# Altium integrated library TI Data Converters Analog to Digital Converter.IntLib: 2197 symbols (part 67 of 168)
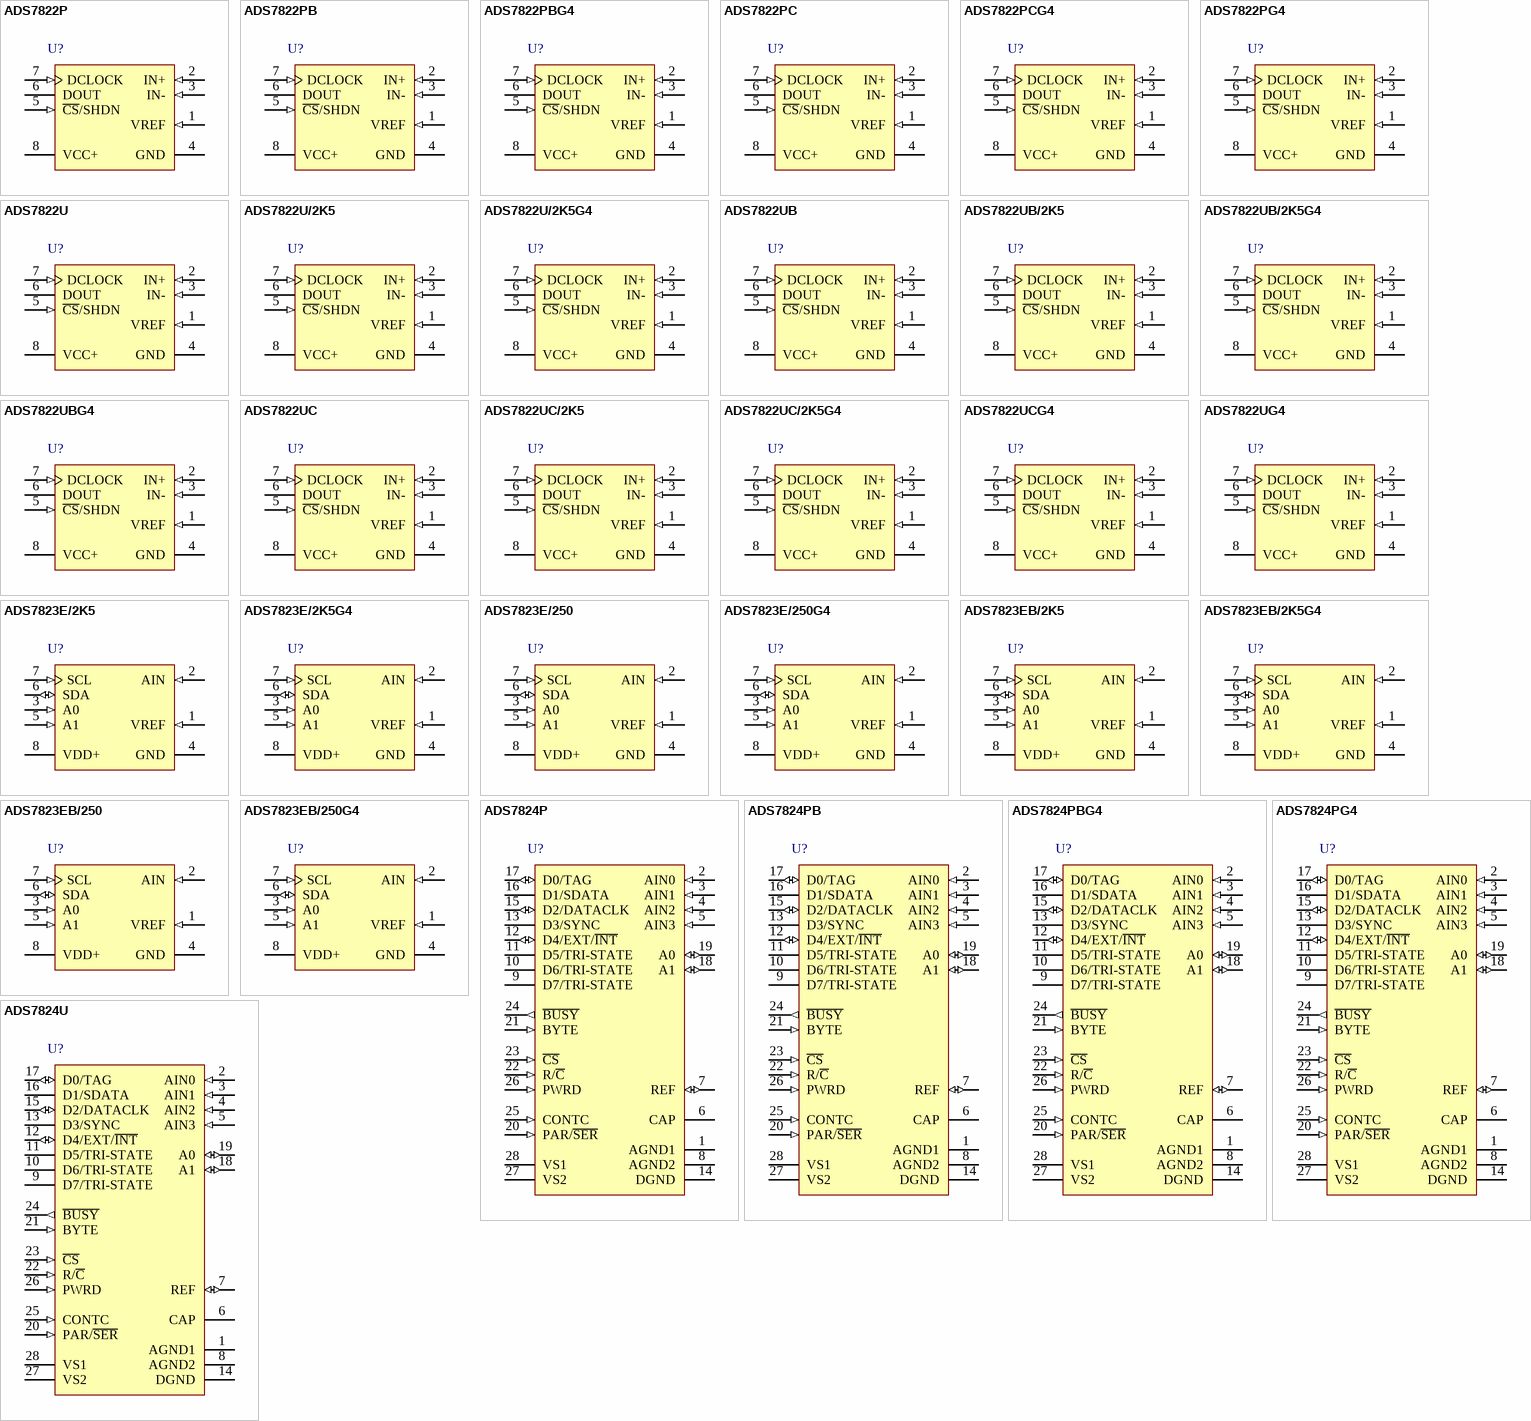
[diagram p192: symbols ADS7822P to ADS7824U]

## ADS7824PBG4
designator U?
4-Channel, 12-Bit Sampling CMOS ADC, -40 to 85 degC, 28-pin DIP (NT28), Green (RoHS & no Sb/Br); Manufacturer: Texas Instruments; PartNumber: ADS7824PBG4; # Input Channels: 4; Analog Voltage AV/DD(Max)(V): 5.25; Analog Voltage AV/DD(Min)(V): 4.75; Architecture: SAR; INL(Max)(+/-LSB): 0.5; Interface: Parallel CMOS, Serial SPI; Resolution(Bits): 12; Sample Rate (max)(SPS): 40k; SFDR(dB): 90; SINAD(dB): 73; SubFamily: Precision ADC (<=10MSPS); DatasheetVersion: SBAS044; PackageVersion: 4040050/C, 04/2009; PackageReference: NT28; PackageDescription: 28-Pin Plastic Dual-In-Line Package, Body 35.69 x 6.73 mm, Pitch 2.54 mm; Supplier 1: Digi-Key; Supplier Part Number 1: TLV2553IDWG4-ND; Supplier 2: Mouser; Supplier Part Number 2: 595-TLV2553IDWG4; Digital Supply(Max)(V): 5.25; Digital Supply(Min)(V): 4.75; Eco-Plan: Green (RoHS & no Sb/Br); SNR(dB): 73; Mounting Technology: Through Hole; ComponentLink1Description: Manufacturer URL; ComponentLink1URL: http://www.ti.com/; ComponentLink2Description: Datasheet; ComponentLink2URL: http://www.ti.com/general/docs/lit/getliterature.tsp?genericPartNumber=ADS7824&fileType=pdf; ComponentLink3Description: Package Specification; ComponentLink3URL: http://www.ti.com/lit/ml/mpdi004a/mpdi004a.pdf
footprint TI-NT28 (DIP, 28-Leads, Body 35.69x6.73mm, Pitch 2.54mm)
pins: 1 AGND1 (power) "Analog Ground. Used internally as ground reference point.", 2 AIN0 (in) "Analog Input Channel 0. Full-scale input range is +/-10V.", 3 AIN1 (in) "Analog Input Channel 1. Full-scale input range is +/-10V.", 4 AIN2 (in) "Analog Input Channel 2. Full-scale input range is +/-10V.", 5 AIN3 (in) "Analog Input Channel 3. Full-scale input range is +/-10V.", 6 CAP "Internal Reference Output Buffer. 2.2uF Tantalum to ground.", 7 REF (io) "Reference Input/Output. Outputs +2.5V nominal. If used externally, must be buffered to maintain ADS7825 accuracy. Can also be driven by external system reference. In both cases, bypass to ground with a 2.2uF Tantalum (See Datasheet)", 8 AGND2 (power) "Analog Ground.", 9 D7/TRI-STATE (hiz) "Parallel Data Bit 7 if PAR/S\E\R\ HIGH; Tri-state if PAR/S\E\R\ LOW. See Table I.", 10 D6/TRI-STATE (hiz) "Parallel Data Bit 6 if PAR/S\E\R\ HIGH; Tri-state if PAR/S\E\R\ LOW. See Table I.", 11 D5/TRI-STATE (hiz) "Parallel Data Bit 5 if PAR/S\E\R\ HIGH; Tri-state if PAR/S\E\R\ LOW. See Table I.", 12 D4/EXT/~{INT} (io) "Parallel Data Bit 4 if PAR/S\E\R\ HIGH; if PAR/S\E\R\ LOW, a LOW level input here will transmit serial data on SDATA from the previous conversion using the internal serial clock; a HIGH input here will transmit serial data (See Datasheet)", 13 D3/SYNC (hiz) "Parallel Data Bit 3 if PAR/S\E\R\ HIGH; SYNC output if PAR/S\E\R\ LOW. See Table I.", 14 DGND (power) "Digital Ground.", 15 D2/DATACLK (io) "Parallel Data Bit 2 if PAR/S\E\R\ HIGH; if PAR/S\E\R\ LOW, this will output the internal serial clock if EXT/I\N\T\ (D4) is LOW; will be an input for an external serial clock if EXT/I\N\T\ (D4) is HIGH. See Table I.", 16 D1/SDATA (hiz) "Parallel Data Bit 1 if PAR/S\E\R\ HIGH; SDATA serial data output if PAR/S\E\R\ LOW. See Table I.", 17 D0/TAG (io) "Parallel Data Bit 0 if PAR/S\E\R\ HIGH; TAG data input if PAR/S\E\R\ LOW. See Table I.", 18 A1 (io) "Channel Address. Input if CONTC LOW, output if CONTC HIGH. See Table I.", 19 A0 (io) "Channel Address. Input if CONTC LOW, output if CONTC HIGH. See Table I.", 20 PAR/~{SER} (in) "Select Parallel or Serial Output. If HIGH, parallel data will be output on D0 thru D7. If LOW, serial data will be output on SDATA. See Table I and Figure 1.", 21 BYTE (in) "Byte Select. Only used with parallel data, when PAR/S\E\R\ HIGH. Determines which byte is available on D0 thru D7. Changing BYTE with C\S\ LOW and R/C\ HIGH will cause the data bus to change accordingly. LOW selects the 8 (See Datasheet)", 22 R/~{C} (in) "Read/Convert Input. With C\S\ LOW, a falling edge on R/C\ puts the internal sample/hold into the hold state and starts a conversion. With C\S\ LOW, a rising edge on R/C\ enables the output data bits if PAR/S\E\R\ HIGH, or (See Datasheet)", 23 ~{CS} (in) "Chip Select. Internally OR'd with R/C\. With CONTC LOW and R/C\ LOW, a falling edge on C\S\ will initiate a conversion. With R/\C\ HIGH, a falling edge on C\S\ will enable the output data bits if PAR/S\E\R\ HIGH, or starts (See Datasheet)", 24 ~{BUSY} (out) "Busy Output. Falls when conversion is started; remains LOW until the conversion is completed and the data is latched into the output register. In parallel output mode, output data will be valid when B\U\S\Y\ rises, so that (See Datasheet)", 25 CONTC (in) "Continuous Conversion Input. If LOW, conversions will occur normally when initiated using C\S\ and R/C\; if HIGH, acquisition and conversions will take place continually, cycling through all four input channels, as long as (See Datasheet)", 26 PWRD (in) "Power Down Input. If HIGH, conversions are inhibited and power consumption is significantly reduced. Results from the previous conversion are maintained in the output register. In the continuous conversion mode, the (See Datasheet)", 27 VS2 (power) "Supply Input. Nominally +5V. Connect directly to pin 28. Decouple to ground with 0.1uF ceramic and 10uF Tantalum capacitors.", 28 VS1 (power) "Supply Input. Nominally +5V. Connect directly to pin 27."

## ADS7824PG4
designator U?
4-Channel, 12-Bit Sampling CMOS ADC, -40 to 85 degC, 28-pin DIP (NT28), Green (RoHS & no Sb/Br); Manufacturer: Texas Instruments; PartNumber: ADS7824PG4; # Input Channels: 4; Analog Voltage AV/DD(Max)(V): 5.25; Analog Voltage AV/DD(Min)(V): 4.75; Architecture: SAR; INL(Max)(+/-LSB): 1; Interface: Parallel CMOS, Serial SPI; Resolution(Bits): 12; Sample Rate (max)(SPS): 40k; SFDR(dB): 90; SINAD(dB): 73; SubFamily: Precision ADC (<=10MSPS); DatasheetVersion: SBAS044; PackageVersion: 4040050/C, 04/2009; PackageReference: NT28; PackageDescription: 28-Pin Plastic Dual-In-Line Package, Body 35.69 x 6.73 mm, Pitch 2.54 mm; Supplier 1: Digi-Key; Supplier Part Number 1: TLV2553IDWR-ND; Supplier 2: Mouser; Supplier Part Number 2: 595-TLV2553IDWR; Digital Supply(Max)(V): 5.25; Digital Supply(Min)(V): 4.75; Eco-Plan: Green (RoHS & no Sb/Br); SNR(dB): 73; Mounting Technology: Through Hole; ComponentLink1Description: Manufacturer URL; ComponentLink1URL: http://www.ti.com/; ComponentLink2Description: Datasheet; ComponentLink2URL: http://www.ti.com/general/docs/lit/getliterature.tsp?genericPartNumber=ADS7824&fileType=pdf; ComponentLink3Description: Package Specification; ComponentLink3URL: http://www.ti.com/lit/ml/mpdi004a/mpdi004a.pdf
footprint TI-NT28 (DIP, 28-Leads, Body 35.69x6.73mm, Pitch 2.54mm)
pins: 1 AGND1 (power) "Analog Ground. Used internally as ground reference point.", 2 AIN0 (in) "Analog Input Channel 0. Full-scale input range is +/-10V.", 3 AIN1 (in) "Analog Input Channel 1. Full-scale input range is +/-10V.", 4 AIN2 (in) "Analog Input Channel 2. Full-scale input range is +/-10V.", 5 AIN3 (in) "Analog Input Channel 3. Full-scale input range is +/-10V.", 6 CAP "Internal Reference Output Buffer. 2.2uF Tantalum to ground.", 7 REF (io) "Reference Input/Output. Outputs +2.5V nominal. If used externally, must be buffered to maintain ADS7825 accuracy. Can also be driven by external system reference. In both cases, bypass to ground with a 2.2uF Tantalum (See Datasheet)", 8 AGND2 (power) "Analog Ground.", 9 D7/TRI-STATE (hiz) "Parallel Data Bit 7 if PAR/S\E\R\ HIGH; Tri-state if PAR/S\E\R\ LOW. See Table I.", 10 D6/TRI-STATE (hiz) "Parallel Data Bit 6 if PAR/S\E\R\ HIGH; Tri-state if PAR/S\E\R\ LOW. See Table I.", 11 D5/TRI-STATE (hiz) "Parallel Data Bit 5 if PAR/S\E\R\ HIGH; Tri-state if PAR/S\E\R\ LOW. See Table I.", 12 D4/EXT/~{INT} (io) "Parallel Data Bit 4 if PAR/S\E\R\ HIGH; if PAR/S\E\R\ LOW, a LOW level input here will transmit serial data on SDATA from the previous conversion using the internal serial clock; a HIGH input here will transmit serial data (See Datasheet)", 13 D3/SYNC (hiz) "Parallel Data Bit 3 if PAR/S\E\R\ HIGH; SYNC output if PAR/S\E\R\ LOW. See Table I.", 14 DGND (power) "Digital Ground.", 15 D2/DATACLK (io) "Parallel Data Bit 2 if PAR/S\E\R\ HIGH; if PAR/S\E\R\ LOW, this will output the internal serial clock if EXT/I\N\T\ (D4) is LOW; will be an input for an external serial clock if EXT/I\N\T\ (D4) is HIGH. See Table I.", 16 D1/SDATA (hiz) "Parallel Data Bit 1 if PAR/S\E\R\ HIGH; SDATA serial data output if PAR/S\E\R\ LOW. See Table I.", 17 D0/TAG (io) "Parallel Data Bit 0 if PAR/S\E\R\ HIGH; TAG data input if PAR/S\E\R\ LOW. See Table I.", 18 A1 (io) "Channel Address. Input if CONTC LOW, output if CONTC HIGH. See Table I.", 19 A0 (io) "Channel Address. Input if CONTC LOW, output if CONTC HIGH. See Table I.", 20 PAR/~{SER} (in) "Select Parallel or Serial Output. If HIGH, parallel data will be output on D0 thru D7. If LOW, serial data will be output on SDATA. See Table I and Figure 1.", 21 BYTE (in) "Byte Select. Only used with parallel data, when PAR/S\E\R\ HIGH. Determines which byte is available on D0 thru D7. Changing BYTE with C\S\ LOW and R/C\ HIGH will cause the data bus to change accordingly. LOW selects the 8 (See Datasheet)", 22 R/~{C} (in) "Read/Convert Input. With C\S\ LOW, a falling edge on R/C\ puts the internal sample/hold into the hold state and starts a conversion. With C\S\ LOW, a rising edge on R/C\ enables the output data bits if PAR/S\E\R\ HIGH, or (See Datasheet)", 23 ~{CS} (in) "Chip Select. Internally OR'd with R/C\. With CONTC LOW and R/C\ LOW, a falling edge on C\S\ will initiate a conversion. With R/\C\ HIGH, a falling edge on C\S\ will enable the output data bits if PAR/S\E\R\ HIGH, or starts (See Datasheet)", 24 ~{BUSY} (out) "Busy Output. Falls when conversion is started; remains LOW until the conversion is completed and the data is latched into the output register. In parallel output mode, output data will be valid when B\U\S\Y\ rises, so that (See Datasheet)", 25 CONTC (in) "Continuous Conversion Input. If LOW, conversions will occur normally when initiated using C\S\ and R/C\; if HIGH, acquisition and conversions will take place continually, cycling through all four input channels, as long as (See Datasheet)", 26 PWRD (in) "Power Down Input. If HIGH, conversions are inhibited and power consumption is significantly reduced. Results from the previous conversion are maintained in the output register. In the continuous conversion mode, the (See Datasheet)", 27 VS2 (power) "Supply Input. Nominally +5V. Connect directly to pin 28. Decouple to ground with 0.1uF ceramic and 10uF Tantalum capacitors.", 28 VS1 (power) "Supply Input. Nominally +5V. Connect directly to pin 27."

## ADS7824U
designator U?
4-Channel, 12-Bit Sampling CMOS ADC, -40 to 85 degC, 28-pin SOIC (DW28), Green (RoHS & no Sb/Br); Manufacturer: Texas Instruments; PartNumber: ADS7824U; # Input Channels: 4; Analog Voltage AV/DD(Max)(V): 5.25; Analog Voltage AV/DD(Min)(V): 4.75; Architecture: SAR; INL(Max)(+/-LSB): 1; Interface: Parallel CMOS, Serial SPI; Resolution(Bits): 12; Sample Rate (max)(SPS): 40k; SFDR(dB): 90; SINAD(dB): 73; SubFamily: Precision ADC (<=10MSPS); DatasheetVersion: SBAS044; PackageVersion: 4040000-6/G, 01/2011; PackageReference: DW28; PackageDescription: 28-Pin Plastic Small Outline, Body 17.90 x 7.50 mm, Pitch 1.27 mm; Supplier 1: Digi-Key; Supplier Part Number 1: TLV2553IDWRG4-ND; Supplier 2: Mouser; Supplier Part Number 2: 595-TLV2553IDWRG4; Digital Supply(Max)(V): 5.25; Digital Supply(Min)(V): 4.75; Eco-Plan: Green (RoHS & no Sb/Br); SNR(dB): 73; Mounting Technology: Surface Mount; Code_JEDEC: MS-013; ComponentLink1Description: Manufacturer URL; ComponentLink1URL: http://www.ti.com/; ComponentLink2Description: Datasheet; ComponentLink2URL: http://www.ti.com/general/docs/lit/getliterature.tsp?genericPartNumber=ADS7824&fileType=pdf; ComponentLink3Description: Package Specification; ComponentLink3URL: http://www.ti.com/lit/ml/mpds175a/mpds175a.pdf
footprint TI-DW28_N (SOIC, 28-Leads, Body 17.9x7.5mm, Pitch 1.27mm, IPC Medium Density)
footprint TI-DW28_L (SOIC, 28-Leads, Body 17.9x7.5mm, Pitch 1.27mm, IPC High Density)
footprint TI-DW28_M (SOIC, 28-Leads, Body 17.9x7.5mm, Pitch 1.27mm, IPC Low Density)
pins: 1 AGND1 (power) "Analog Ground. Used internally as ground reference point.", 2 AIN0 (in) "Analog Input Channel 0. Full-scale input range is +/-10V.", 3 AIN1 (in) "Analog Input Channel 1. Full-scale input range is +/-10V.", 4 AIN2 (in) "Analog Input Channel 2. Full-scale input range is +/-10V.", 5 AIN3 (in) "Analog Input Channel 3. Full-scale input range is +/-10V.", 6 CAP "Internal Reference Output Buffer. 2.2uF Tantalum to ground.", 7 REF (io) "Reference Input/Output. Outputs +2.5V nominal. If used externally, must be buffered to maintain ADS7825 accuracy. Can also be driven by external system reference. In both cases, bypass to ground with a 2.2uF Tantalum (See Datasheet)", 8 AGND2 (power) "Analog Ground.", 9 D7/TRI-STATE (hiz) "Parallel Data Bit 7 if PAR/S\E\R\ HIGH; Tri-state if PAR/S\E\R\ LOW. See Table I.", 10 D6/TRI-STATE (hiz) "Parallel Data Bit 6 if PAR/S\E\R\ HIGH; Tri-state if PAR/S\E\R\ LOW. See Table I.", 11 D5/TRI-STATE (hiz) "Parallel Data Bit 5 if PAR/S\E\R\ HIGH; Tri-state if PAR/S\E\R\ LOW. See Table I.", 12 D4/EXT/~{INT} (io) "Parallel Data Bit 4 if PAR/S\E\R\ HIGH; if PAR/S\E\R\ LOW, a LOW level input here will transmit serial data on SDATA from the previous conversion using the internal serial clock; a HIGH input here will transmit serial data (See Datasheet)", 13 D3/SYNC (hiz) "Parallel Data Bit 3 if PAR/S\E\R\ HIGH; SYNC output if PAR/S\E\R\ LOW. See Table I.", 14 DGND (power) "Digital Ground.", 15 D2/DATACLK (io) "Parallel Data Bit 2 if PAR/S\E\R\ HIGH; if PAR/S\E\R\ LOW, this will output the internal serial clock if EXT/I\N\T\ (D4) is LOW; will be an input for an external serial clock if EXT/I\N\T\ (D4) is HIGH. See Table I.", 16 D1/SDATA (hiz) "Parallel Data Bit 1 if PAR/S\E\R\ HIGH; SDATA serial data output if PAR/S\E\R\ LOW. See Table I.", 17 D0/TAG (io) "Parallel Data Bit 0 if PAR/S\E\R\ HIGH; TAG data input if PAR/S\E\R\ LOW. See Table I.", 18 A1 (io) "Channel Address. Input if CONTC LOW, output if CONTC HIGH. See Table I.", 19 A0 (io) "Channel Address. Input if CONTC LOW, output if CONTC HIGH. See Table I.", 20 PAR/~{SER} (in) "Select Parallel or Serial Output. If HIGH, parallel data will be output on D0 thru D7. If LOW, serial data will be output on SDATA. See Table I and Figure 1.", 21 BYTE (in) "Byte Select. Only used with parallel data, when PAR/S\E\R\ HIGH. Determines which byte is available on D0 thru D7. Changing BYTE with C\S\ LOW and R/C\ HIGH will cause the data bus to change accordingly. LOW selects the 8 (See Datasheet)", 22 R/~{C} (in) "Read/Convert Input. With C\S\ LOW, a falling edge on R/C\ puts the internal sample/hold into the hold state and starts a conversion. With C\S\ LOW, a rising edge on R/C\ enables the output data bits if PAR/S\E\R\ HIGH, or (See Datasheet)", 23 ~{CS} (in) "Chip Select. Internally OR'd with R/C\. With CONTC LOW and R/C\ LOW, a falling edge on C\S\ will initiate a conversion. With R/\C\ HIGH, a falling edge on C\S\ will enable the output data bits if PAR/S\E\R\ HIGH, or starts (See Datasheet)", 24 ~{BUSY} (out) "Busy Output. Falls when conversion is started; remains LOW until the conversion is completed and the data is latched into the output register. In parallel output mode, output data will be valid when B\U\S\Y\ rises, so that (See Datasheet)", 25 CONTC (in) "Continuous Conversion Input. If LOW, conversions will occur normally when initiated using C\S\ and R/C\; if HIGH, acquisition and conversions will take place continually, cycling through all four input channels, as long as (See Datasheet)", 26 PWRD (in) "Power Down Input. If HIGH, conversions are inhibited and power consumption is significantly reduced. Results from the previous conversion are maintained in the output register. In the continuous conversion mode, the (See Datasheet)", 27 VS2 (power) "Supply Input. Nominally +5V. Connect directly to pin 28. Decouple to ground with 0.1uF ceramic and 10uF Tantalum capacitors.", 28 VS1 (power) "Supply Input. Nominally +5V. Connect directly to pin 27."

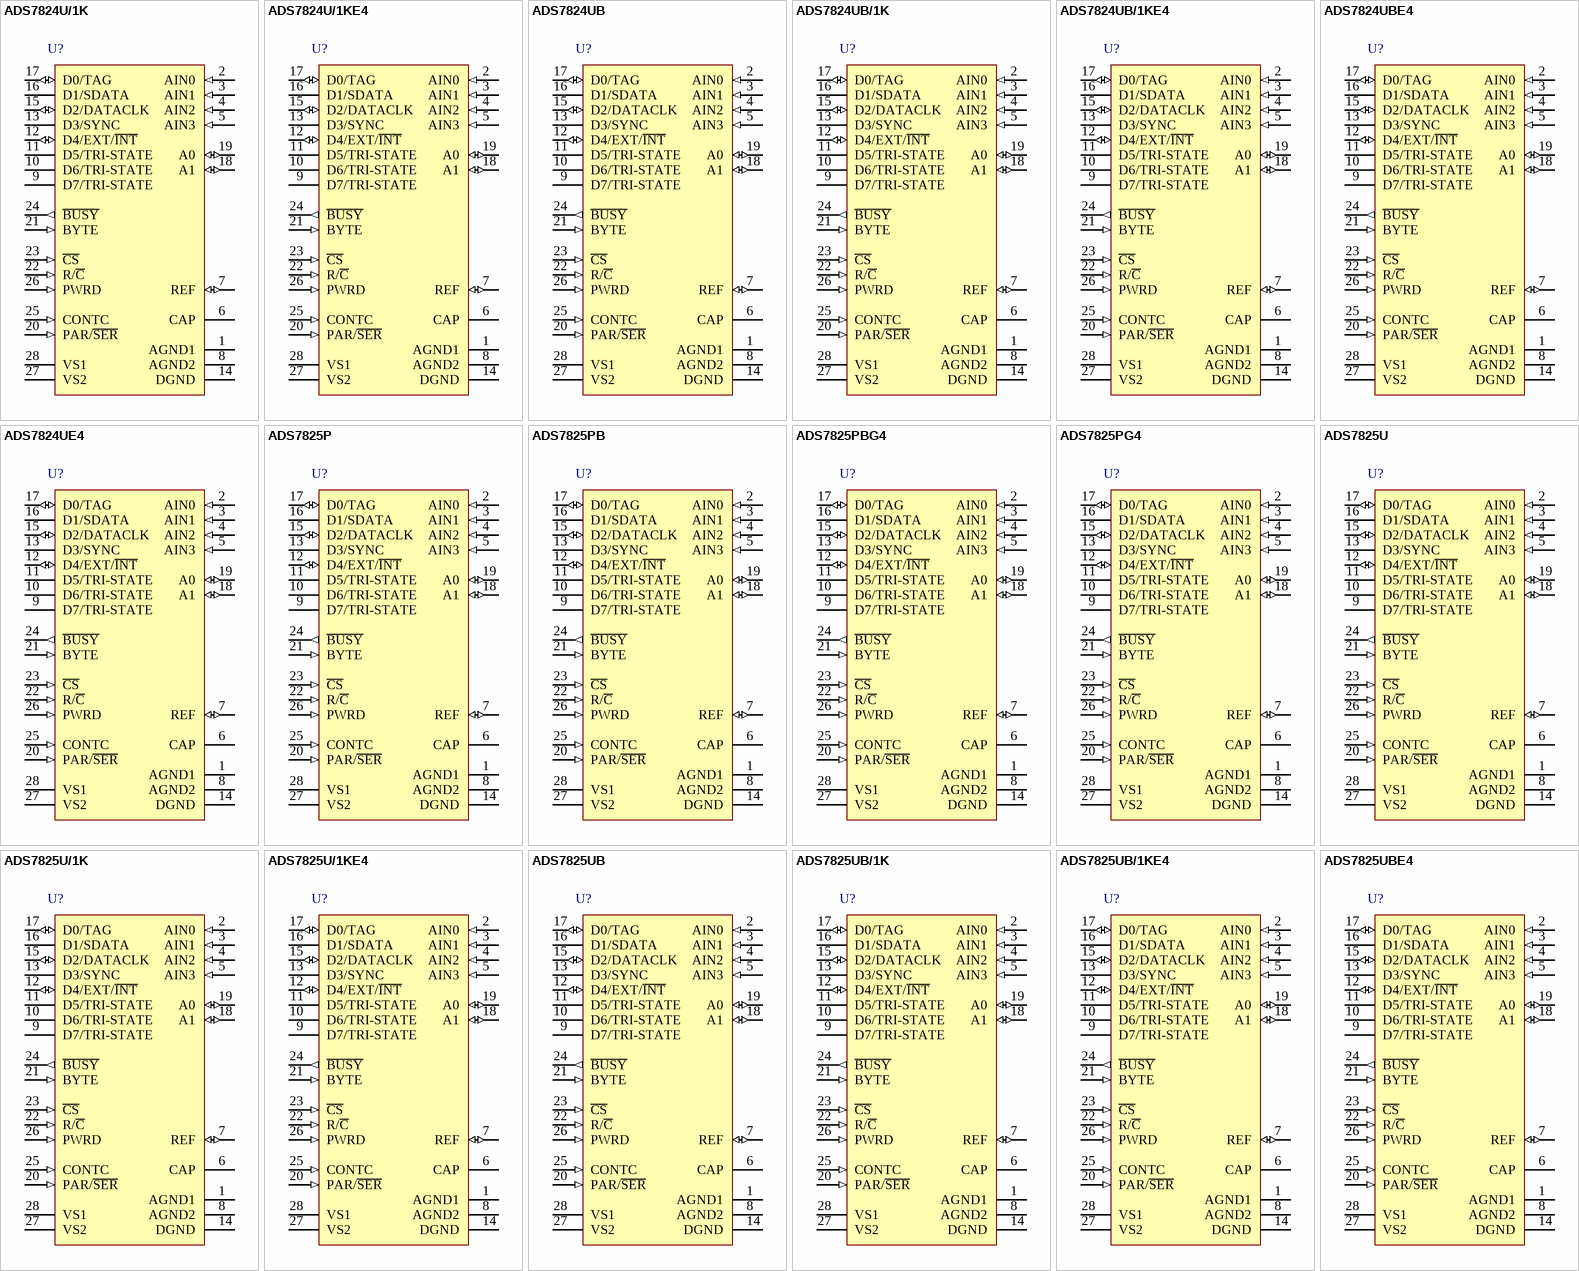
[diagram p62: symbols ADS7824U/1K to ADS7825UBE4]

## ADS7824U/1K
designator U?
4-Channel, 12-Bit Sampling CMOS ADC, -40 to 85 degC, 28-pin SOIC (DW28), Green (RoHS & no Sb/Br); Manufacturer: Texas Instruments; PartNumber: ADS7824U/1K; # Input Channels: 4; Analog Voltage AV/DD(Max)(V): 5.25; Analog Voltage AV/DD(Min)(V): 4.75; Architecture: SAR; INL(Max)(+/-LSB): 1; Interface: Parallel CMOS, Serial SPI; Resolution(Bits): 12; Sample Rate (max)(SPS): 40k; SFDR(dB): 90; SINAD(dB): 73; SubFamily: Precision ADC (<=10MSPS); DatasheetVersion: SBAS044; PackageVersion: 4040000-6/G, 01/2011; PackageReference: DW28; PackageDescription: 28-Pin Plastic Small Outline, Body 17.90 x 7.50 mm, Pitch 1.27 mm; Supplier 1: Digi-Key; Supplier Part Number 1: 296-15633-5-ND; Supplier 2: Newark; Supplier Part Number 2: 76C8378; Supplier 3: Mouser; Supplier Part Number 3: 595-TLV2553IPW; Digital Supply(Max)(V): 5.25; Digital Supply(Min)(V): 4.75; Eco-Plan: Green (RoHS & no Sb/Br); SNR(dB): 73; Mounting Technology: Surface Mount; Code_JEDEC: MS-013; ComponentLink1Description: Manufacturer URL; ComponentLink1URL: http://www.ti.com/; ComponentLink2Description: Datasheet; ComponentLink2URL: http://www.ti.com/general/docs/lit/getliterature.tsp?genericPartNumber=ADS7824&fileType=pdf; ComponentLink3Description: Package Specification; ComponentLink3URL: http://www.ti.com/lit/ml/mpds175a/mpds175a.pdf
footprint TI-DW28_N (SOIC, 28-Leads, Body 17.9x7.5mm, Pitch 1.27mm, IPC Medium Density)
footprint TI-DW28_L (SOIC, 28-Leads, Body 17.9x7.5mm, Pitch 1.27mm, IPC High Density)
footprint TI-DW28_M (SOIC, 28-Leads, Body 17.9x7.5mm, Pitch 1.27mm, IPC Low Density)
pins: 1 AGND1 (power) "Analog Ground. Used internally as ground reference point.", 2 AIN0 (in) "Analog Input Channel 0. Full-scale input range is +/-10V.", 3 AIN1 (in) "Analog Input Channel 1. Full-scale input range is +/-10V.", 4 AIN2 (in) "Analog Input Channel 2. Full-scale input range is +/-10V.", 5 AIN3 (in) "Analog Input Channel 3. Full-scale input range is +/-10V.", 6 CAP "Internal Reference Output Buffer. 2.2uF Tantalum to ground.", 7 REF (io) "Reference Input/Output. Outputs +2.5V nominal. If used externally, must be buffered to maintain ADS7825 accuracy. Can also be driven by external system reference. In both cases, bypass to ground with a 2.2uF Tantalum (See Datasheet)", 8 AGND2 (power) "Analog Ground.", 9 D7/TRI-STATE (hiz) "Parallel Data Bit 7 if PAR/S\E\R\ HIGH; Tri-state if PAR/S\E\R\ LOW. See Table I.", 10 D6/TRI-STATE (hiz) "Parallel Data Bit 6 if PAR/S\E\R\ HIGH; Tri-state if PAR/S\E\R\ LOW. See Table I.", 11 D5/TRI-STATE (hiz) "Parallel Data Bit 5 if PAR/S\E\R\ HIGH; Tri-state if PAR/S\E\R\ LOW. See Table I.", 12 D4/EXT/~{INT} (io) "Parallel Data Bit 4 if PAR/S\E\R\ HIGH; if PAR/S\E\R\ LOW, a LOW level input here will transmit serial data on SDATA from the previous conversion using the internal serial clock; a HIGH input here will transmit serial data (See Datasheet)", 13 D3/SYNC (hiz) "Parallel Data Bit 3 if PAR/S\E\R\ HIGH; SYNC output if PAR/S\E\R\ LOW. See Table I.", 14 DGND (power) "Digital Ground.", 15 D2/DATACLK (io) "Parallel Data Bit 2 if PAR/S\E\R\ HIGH; if PAR/S\E\R\ LOW, this will output the internal serial clock if EXT/I\N\T\ (D4) is LOW; will be an input for an external serial clock if EXT/I\N\T\ (D4) is HIGH. See Table I.", 16 D1/SDATA (hiz) "Parallel Data Bit 1 if PAR/S\E\R\ HIGH; SDATA serial data output if PAR/S\E\R\ LOW. See Table I.", 17 D0/TAG (io) "Parallel Data Bit 0 if PAR/S\E\R\ HIGH; TAG data input if PAR/S\E\R\ LOW. See Table I.", 18 A1 (io) "Channel Address. Input if CONTC LOW, output if CONTC HIGH. See Table I.", 19 A0 (io) "Channel Address. Input if CONTC LOW, output if CONTC HIGH. See Table I.", 20 PAR/~{SER} (in) "Select Parallel or Serial Output. If HIGH, parallel data will be output on D0 thru D7. If LOW, serial data will be output on SDATA. See Table I and Figure 1.", 21 BYTE (in) "Byte Select. Only used with parallel data, when PAR/S\E\R\ HIGH. Determines which byte is available on D0 thru D7. Changing BYTE with C\S\ LOW and R/C\ HIGH will cause the data bus to change accordingly. LOW selects the 8 (See Datasheet)", 22 R/~{C} (in) "Read/Convert Input. With C\S\ LOW, a falling edge on R/C\ puts the internal sample/hold into the hold state and starts a conversion. With C\S\ LOW, a rising edge on R/C\ enables the output data bits if PAR/S\E\R\ HIGH, or (See Datasheet)", 23 ~{CS} (in) "Chip Select. Internally OR'd with R/C\. With CONTC LOW and R/C\ LOW, a falling edge on C\S\ will initiate a conversion. With R/\C\ HIGH, a falling edge on C\S\ will enable the output data bits if PAR/S\E\R\ HIGH, or starts (See Datasheet)", 24 ~{BUSY} (out) "Busy Output. Falls when conversion is started; remains LOW until the conversion is completed and the data is latched into the output register. In parallel output mode, output data will be valid when B\U\S\Y\ rises, so that (See Datasheet)", 25 CONTC (in) "Continuous Conversion Input. If LOW, conversions will occur normally when initiated using C\S\ and R/C\; if HIGH, acquisition and conversions will take place continually, cycling through all four input channels, as long as (See Datasheet)", 26 PWRD (in) "Power Down Input. If HIGH, conversions are inhibited and power consumption is significantly reduced. Results from the previous conversion are maintained in the output register. In the continuous conversion mode, the (See Datasheet)", 27 VS2 (power) "Supply Input. Nominally +5V. Connect directly to pin 28. Decouple to ground with 0.1uF ceramic and 10uF Tantalum capacitors.", 28 VS1 (power) "Supply Input. Nominally +5V. Connect directly to pin 27."

## ADS7824U/1KE4
designator U?
4-Channel, 12-Bit Sampling CMOS ADC, -40 to 85 degC, 28-pin SOIC (DW28), Green (RoHS & no Sb/Br); Manufacturer: Texas Instruments; PartNumber: ADS7824U/1KE4; # Input Channels: 4; Analog Voltage AV/DD(Max)(V): 5.25; Analog Voltage AV/DD(Min)(V): 4.75; Architecture: SAR; INL(Max)(+/-LSB): 1; Interface: Parallel CMOS, Serial SPI; Resolution(Bits): 12; Sample Rate (max)(SPS): 40k; SFDR(dB): 90; SINAD(dB): 73; SubFamily: Precision ADC (<=10MSPS); DatasheetVersion: SBAS044; PackageVersion: 4040000-6/G, 01/2011; PackageReference: DW28; PackageDescription: 28-Pin Plastic Small Outline, Body 17.90 x 7.50 mm, Pitch 1.27 mm; Supplier 1: Digi-Key; Supplier Part Number 1: TLV2553IPWG4-ND; Supplier 2: Mouser; Supplier Part Number 2: 595-TLV2553IPWG4; Digital Supply(Max)(V): 5.25; Digital Supply(Min)(V): 4.75; Eco-Plan: Green (RoHS & no Sb/Br); SNR(dB): 73; Mounting Technology: Surface Mount; Code_JEDEC: MS-013; ComponentLink1Description: Manufacturer URL; ComponentLink1URL: http://www.ti.com/; ComponentLink2Description: Datasheet; ComponentLink2URL: http://www.ti.com/general/docs/lit/getliterature.tsp?genericPartNumber=ADS7824&fileType=pdf; ComponentLink3Description: Package Specification; ComponentLink3URL: http://www.ti.com/lit/ml/mpds175a/mpds175a.pdf
footprint TI-DW28_N (SOIC, 28-Leads, Body 17.9x7.5mm, Pitch 1.27mm, IPC Medium Density)
footprint TI-DW28_L (SOIC, 28-Leads, Body 17.9x7.5mm, Pitch 1.27mm, IPC High Density)
footprint TI-DW28_M (SOIC, 28-Leads, Body 17.9x7.5mm, Pitch 1.27mm, IPC Low Density)
pins: 1 AGND1 (power) "Analog Ground. Used internally as ground reference point.", 2 AIN0 (in) "Analog Input Channel 0. Full-scale input range is +/-10V.", 3 AIN1 (in) "Analog Input Channel 1. Full-scale input range is +/-10V.", 4 AIN2 (in) "Analog Input Channel 2. Full-scale input range is +/-10V.", 5 AIN3 (in) "Analog Input Channel 3. Full-scale input range is +/-10V.", 6 CAP "Internal Reference Output Buffer. 2.2uF Tantalum to ground.", 7 REF (io) "Reference Input/Output. Outputs +2.5V nominal. If used externally, must be buffered to maintain ADS7825 accuracy. Can also be driven by external system reference. In both cases, bypass to ground with a 2.2uF Tantalum (See Datasheet)", 8 AGND2 (power) "Analog Ground.", 9 D7/TRI-STATE (hiz) "Parallel Data Bit 7 if PAR/S\E\R\ HIGH; Tri-state if PAR/S\E\R\ LOW. See Table I.", 10 D6/TRI-STATE (hiz) "Parallel Data Bit 6 if PAR/S\E\R\ HIGH; Tri-state if PAR/S\E\R\ LOW. See Table I.", 11 D5/TRI-STATE (hiz) "Parallel Data Bit 5 if PAR/S\E\R\ HIGH; Tri-state if PAR/S\E\R\ LOW. See Table I.", 12 D4/EXT/~{INT} (io) "Parallel Data Bit 4 if PAR/S\E\R\ HIGH; if PAR/S\E\R\ LOW, a LOW level input here will transmit serial data on SDATA from the previous conversion using the internal serial clock; a HIGH input here will transmit serial data (See Datasheet)", 13 D3/SYNC (hiz) "Parallel Data Bit 3 if PAR/S\E\R\ HIGH; SYNC output if PAR/S\E\R\ LOW. See Table I.", 14 DGND (power) "Digital Ground.", 15 D2/DATACLK (io) "Parallel Data Bit 2 if PAR/S\E\R\ HIGH; if PAR/S\E\R\ LOW, this will output the internal serial clock if EXT/I\N\T\ (D4) is LOW; will be an input for an external serial clock if EXT/I\N\T\ (D4) is HIGH. See Table I.", 16 D1/SDATA (hiz) "Parallel Data Bit 1 if PAR/S\E\R\ HIGH; SDATA serial data output if PAR/S\E\R\ LOW. See Table I.", 17 D0/TAG (io) "Parallel Data Bit 0 if PAR/S\E\R\ HIGH; TAG data input if PAR/S\E\R\ LOW. See Table I.", 18 A1 (io) "Channel Address. Input if CONTC LOW, output if CONTC HIGH. See Table I.", 19 A0 (io) "Channel Address. Input if CONTC LOW, output if CONTC HIGH. See Table I.", 20 PAR/~{SER} (in) "Select Parallel or Serial Output. If HIGH, parallel data will be output on D0 thru D7. If LOW, serial data will be output on SDATA. See Table I and Figure 1.", 21 BYTE (in) "Byte Select. Only used with parallel data, when PAR/S\E\R\ HIGH. Determines which byte is available on D0 thru D7. Changing BYTE with C\S\ LOW and R/C\ HIGH will cause the data bus to change accordingly. LOW selects the 8 (See Datasheet)", 22 R/~{C} (in) "Read/Convert Input. With C\S\ LOW, a falling edge on R/C\ puts the internal sample/hold into the hold state and starts a conversion. With C\S\ LOW, a rising edge on R/C\ enables the output data bits if PAR/S\E\R\ HIGH, or (See Datasheet)", 23 ~{CS} (in) "Chip Select. Internally OR'd with R/C\. With CONTC LOW and R/C\ LOW, a falling edge on C\S\ will initiate a conversion. With R/\C\ HIGH, a falling edge on C\S\ will enable the output data bits if PAR/S\E\R\ HIGH, or starts (See Datasheet)", 24 ~{BUSY} (out) "Busy Output. Falls when conversion is started; remains LOW until the conversion is completed and the data is latched into the output register. In parallel output mode, output data will be valid when B\U\S\Y\ rises, so that (See Datasheet)", 25 CONTC (in) "Continuous Conversion Input. If LOW, conversions will occur normally when initiated using C\S\ and R/C\; if HIGH, acquisition and conversions will take place continually, cycling through all four input channels, as long as (See Datasheet)", 26 PWRD (in) "Power Down Input. If HIGH, conversions are inhibited and power consumption is significantly reduced. Results from the previous conversion are maintained in the output register. In the continuous conversion mode, the (See Datasheet)", 27 VS2 (power) "Supply Input. Nominally +5V. Connect directly to pin 28. Decouple to ground with 0.1uF ceramic and 10uF Tantalum capacitors.", 28 VS1 (power) "Supply Input. Nominally +5V. Connect directly to pin 27."

## ADS7824UB
designator U?
4-Channel, 12-Bit Sampling CMOS ADC, -40 to 85 degC, 28-pin SOIC (DW28), Green (RoHS & no Sb/Br); Manufacturer: Texas Instruments; PartNumber: ADS7824UB; # Input Channels: 4; Analog Voltage AV/DD(Max)(V): 5.25; Analog Voltage AV/DD(Min)(V): 4.75; Architecture: SAR; INL(Max)(+/-LSB): 0.5; Interface: Parallel CMOS, Serial SPI; Resolution(Bits): 12; Sample Rate (max)(SPS): 40k; SFDR(dB): 90; SINAD(dB): 73; SubFamily: Precision ADC (<=10MSPS); DatasheetVersion: SBAS044; PackageVersion: 4040000-6/G, 01/2011; PackageReference: DW28; PackageDescription: 28-Pin Plastic Small Outline, Body 17.90 x 7.50 mm, Pitch 1.27 mm; Supplier 1: Digi-Key; Supplier Part Number 1: TLV2553IPWR-ND; Supplier 2: Mouser; Supplier Part Number 2: 595-TLV2553IPWR; Digital Supply(Max)(V): 5.25; Digital Supply(Min)(V): 4.75; Eco-Plan: Green (RoHS & no Sb/Br); SNR(dB): 73; Mounting Technology: Surface Mount; Code_JEDEC: MS-013; ComponentLink1Description: Manufacturer URL; ComponentLink1URL: http://www.ti.com/; ComponentLink2Description: Datasheet; ComponentLink2URL: http://www.ti.com/general/docs/lit/getliterature.tsp?genericPartNumber=ADS7824&fileType=pdf; ComponentLink3Description: Package Specification; ComponentLink3URL: http://www.ti.com/lit/ml/mpds175a/mpds175a.pdf
footprint TI-DW28_N (SOIC, 28-Leads, Body 17.9x7.5mm, Pitch 1.27mm, IPC Medium Density)
footprint TI-DW28_L (SOIC, 28-Leads, Body 17.9x7.5mm, Pitch 1.27mm, IPC High Density)
footprint TI-DW28_M (SOIC, 28-Leads, Body 17.9x7.5mm, Pitch 1.27mm, IPC Low Density)
pins: 1 AGND1 (power) "Analog Ground. Used internally as ground reference point.", 2 AIN0 (in) "Analog Input Channel 0. Full-scale input range is +/-10V.", 3 AIN1 (in) "Analog Input Channel 1. Full-scale input range is +/-10V.", 4 AIN2 (in) "Analog Input Channel 2. Full-scale input range is +/-10V.", 5 AIN3 (in) "Analog Input Channel 3. Full-scale input range is +/-10V.", 6 CAP "Internal Reference Output Buffer. 2.2uF Tantalum to ground.", 7 REF (io) "Reference Input/Output. Outputs +2.5V nominal. If used externally, must be buffered to maintain ADS7825 accuracy. Can also be driven by external system reference. In both cases, bypass to ground with a 2.2uF Tantalum (See Datasheet)", 8 AGND2 (power) "Analog Ground.", 9 D7/TRI-STATE (hiz) "Parallel Data Bit 7 if PAR/S\E\R\ HIGH; Tri-state if PAR/S\E\R\ LOW. See Table I.", 10 D6/TRI-STATE (hiz) "Parallel Data Bit 6 if PAR/S\E\R\ HIGH; Tri-state if PAR/S\E\R\ LOW. See Table I.", 11 D5/TRI-STATE (hiz) "Parallel Data Bit 5 if PAR/S\E\R\ HIGH; Tri-state if PAR/S\E\R\ LOW. See Table I.", 12 D4/EXT/~{INT} (io) "Parallel Data Bit 4 if PAR/S\E\R\ HIGH; if PAR/S\E\R\ LOW, a LOW level input here will transmit serial data on SDATA from the previous conversion using the internal serial clock; a HIGH input here will transmit serial data (See Datasheet)", 13 D3/SYNC (hiz) "Parallel Data Bit 3 if PAR/S\E\R\ HIGH; SYNC output if PAR/S\E\R\ LOW. See Table I.", 14 DGND (power) "Digital Ground.", 15 D2/DATACLK (io) "Parallel Data Bit 2 if PAR/S\E\R\ HIGH; if PAR/S\E\R\ LOW, this will output the internal serial clock if EXT/I\N\T\ (D4) is LOW; will be an input for an external serial clock if EXT/I\N\T\ (D4) is HIGH. See Table I.", 16 D1/SDATA (hiz) "Parallel Data Bit 1 if PAR/S\E\R\ HIGH; SDATA serial data output if PAR/S\E\R\ LOW. See Table I.", 17 D0/TAG (io) "Parallel Data Bit 0 if PAR/S\E\R\ HIGH; TAG data input if PAR/S\E\R\ LOW. See Table I.", 18 A1 (io) "Channel Address. Input if CONTC LOW, output if CONTC HIGH. See Table I.", 19 A0 (io) "Channel Address. Input if CONTC LOW, output if CONTC HIGH. See Table I.", 20 PAR/~{SER} (in) "Select Parallel or Serial Output. If HIGH, parallel data will be output on D0 thru D7. If LOW, serial data will be output on SDATA. See Table I and Figure 1.", 21 BYTE (in) "Byte Select. Only used with parallel data, when PAR/S\E\R\ HIGH. Determines which byte is available on D0 thru D7. Changing BYTE with C\S\ LOW and R/C\ HIGH will cause the data bus to change accordingly. LOW selects the 8 (See Datasheet)", 22 R/~{C} (in) "Read/Convert Input. With C\S\ LOW, a falling edge on R/C\ puts the internal sample/hold into the hold state and starts a conversion. With C\S\ LOW, a rising edge on R/C\ enables the output data bits if PAR/S\E\R\ HIGH, or (See Datasheet)", 23 ~{CS} (in) "Chip Select. Internally OR'd with R/C\. With CONTC LOW and R/C\ LOW, a falling edge on C\S\ will initiate a conversion. With R/\C\ HIGH, a falling edge on C\S\ will enable the output data bits if PAR/S\E\R\ HIGH, or starts (See Datasheet)", 24 ~{BUSY} (out) "Busy Output. Falls when conversion is started; remains LOW until the conversion is completed and the data is latched into the output register. In parallel output mode, output data will be valid when B\U\S\Y\ rises, so that (See Datasheet)", 25 CONTC (in) "Continuous Conversion Input. If LOW, conversions will occur normally when initiated using C\S\ and R/C\; if HIGH, acquisition and conversions will take place continually, cycling through all four input channels, as long as (See Datasheet)", 26 PWRD (in) "Power Down Input. If HIGH, conversions are inhibited and power consumption is significantly reduced. Results from the previous conversion are maintained in the output register. In the continuous conversion mode, the (See Datasheet)", 27 VS2 (power) "Supply Input. Nominally +5V. Connect directly to pin 28. Decouple to ground with 0.1uF ceramic and 10uF Tantalum capacitors.", 28 VS1 (power) "Supply Input. Nominally +5V. Connect directly to pin 27."

## ADS7824UB/1K
designator U?
4-Channel, 12-Bit Sampling CMOS ADC, -40 to 85 degC, 28-pin SOIC (DW28), Green (RoHS & no Sb/Br); Manufacturer: Texas Instruments; PartNumber: ADS7824UB/1K; # Input Channels: 4; Analog Voltage AV/DD(Max)(V): 5.25; Analog Voltage AV/DD(Min)(V): 4.75; Architecture: SAR; INL(Max)(+/-LSB): 0.5; Interface: Parallel CMOS, Serial SPI; Resolution(Bits): 12; Sample Rate (max)(SPS): 40k; SFDR(dB): 90; SINAD(dB): 73; SubFamily: Precision ADC (<=10MSPS); DatasheetVersion: SBAS044; PackageVersion: 4040000-6/G, 01/2011; PackageReference: DW28; PackageDescription: 28-Pin Plastic Small Outline, Body 17.90 x 7.50 mm, Pitch 1.27 mm; Supplier 1: Digi-Key; Supplier Part Number 1: TLV2553IPWRG4-ND; Supplier 2: Newark; Supplier Part Number 2: 58K6782; Supplier 3: Mouser; Supplier Part Number 3: 595-TLV2553IPWRG4; Digital Supply(Max)(V): 5.25; Digital Supply(Min)(V): 4.75; Eco-Plan: Green (RoHS & no Sb/Br); SNR(dB): 73; Mounting Technology: Surface Mount; Code_JEDEC: MS-013; ComponentLink1Description: Manufacturer URL; ComponentLink1URL: http://www.ti.com/; ComponentLink2Description: Datasheet; ComponentLink2URL: http://www.ti.com/general/docs/lit/getliterature.tsp?genericPartNumber=ADS7824&fileType=pdf; ComponentLink3Description: Package Specification; ComponentLink3URL: http://www.ti.com/lit/ml/mpds175a/mpds175a.pdf
footprint TI-DW28_N (SOIC, 28-Leads, Body 17.9x7.5mm, Pitch 1.27mm, IPC Medium Density)
footprint TI-DW28_L (SOIC, 28-Leads, Body 17.9x7.5mm, Pitch 1.27mm, IPC High Density)
footprint TI-DW28_M (SOIC, 28-Leads, Body 17.9x7.5mm, Pitch 1.27mm, IPC Low Density)
pins: 1 AGND1 (power) "Analog Ground. Used internally as ground reference point.", 2 AIN0 (in) "Analog Input Channel 0. Full-scale input range is +/-10V.", 3 AIN1 (in) "Analog Input Channel 1. Full-scale input range is +/-10V.", 4 AIN2 (in) "Analog Input Channel 2. Full-scale input range is +/-10V.", 5 AIN3 (in) "Analog Input Channel 3. Full-scale input range is +/-10V.", 6 CAP "Internal Reference Output Buffer. 2.2uF Tantalum to ground.", 7 REF (io) "Reference Input/Output. Outputs +2.5V nominal. If used externally, must be buffered to maintain ADS7825 accuracy. Can also be driven by external system reference. In both cases, bypass to ground with a 2.2uF Tantalum (See Datasheet)", 8 AGND2 (power) "Analog Ground.", 9 D7/TRI-STATE (hiz) "Parallel Data Bit 7 if PAR/S\E\R\ HIGH; Tri-state if PAR/S\E\R\ LOW. See Table I.", 10 D6/TRI-STATE (hiz) "Parallel Data Bit 6 if PAR/S\E\R\ HIGH; Tri-state if PAR/S\E\R\ LOW. See Table I.", 11 D5/TRI-STATE (hiz) "Parallel Data Bit 5 if PAR/S\E\R\ HIGH; Tri-state if PAR/S\E\R\ LOW. See Table I.", 12 D4/EXT/~{INT} (io) "Parallel Data Bit 4 if PAR/S\E\R\ HIGH; if PAR/S\E\R\ LOW, a LOW level input here will transmit serial data on SDATA from the previous conversion using the internal serial clock; a HIGH input here will transmit serial data (See Datasheet)", 13 D3/SYNC (hiz) "Parallel Data Bit 3 if PAR/S\E\R\ HIGH; SYNC output if PAR/S\E\R\ LOW. See Table I.", 14 DGND (power) "Digital Ground.", 15 D2/DATACLK (io) "Parallel Data Bit 2 if PAR/S\E\R\ HIGH; if PAR/S\E\R\ LOW, this will output the internal serial clock if EXT/I\N\T\ (D4) is LOW; will be an input for an external serial clock if EXT/I\N\T\ (D4) is HIGH. See Table I.", 16 D1/SDATA (hiz) "Parallel Data Bit 1 if PAR/S\E\R\ HIGH; SDATA serial data output if PAR/S\E\R\ LOW. See Table I.", 17 D0/TAG (io) "Parallel Data Bit 0 if PAR/S\E\R\ HIGH; TAG data input if PAR/S\E\R\ LOW. See Table I.", 18 A1 (io) "Channel Address. Input if CONTC LOW, output if CONTC HIGH. See Table I.", 19 A0 (io) "Channel Address. Input if CONTC LOW, output if CONTC HIGH. See Table I.", 20 PAR/~{SER} (in) "Select Parallel or Serial Output. If HIGH, parallel data will be output on D0 thru D7. If LOW, serial data will be output on SDATA. See Table I and Figure 1.", 21 BYTE (in) "Byte Select. Only used with parallel data, when PAR/S\E\R\ HIGH. Determines which byte is available on D0 thru D7. Changing BYTE with C\S\ LOW and R/C\ HIGH will cause the data bus to change accordingly. LOW selects the 8 (See Datasheet)", 22 R/~{C} (in) "Read/Convert Input. With C\S\ LOW, a falling edge on R/C\ puts the internal sample/hold into the hold state and starts a conversion. With C\S\ LOW, a rising edge on R/C\ enables the output data bits if PAR/S\E\R\ HIGH, or (See Datasheet)", 23 ~{CS} (in) "Chip Select. Internally OR'd with R/C\. With CONTC LOW and R/C\ LOW, a falling edge on C\S\ will initiate a conversion. With R/\C\ HIGH, a falling edge on C\S\ will enable the output data bits if PAR/S\E\R\ HIGH, or starts (See Datasheet)", 24 ~{BUSY} (out) "Busy Output. Falls when conversion is started; remains LOW until the conversion is completed and the data is latched into the output register. In parallel output mode, output data will be valid when B\U\S\Y\ rises, so that (See Datasheet)", 25 CONTC (in) "Continuous Conversion Input. If LOW, conversions will occur normally when initiated using C\S\ and R/C\; if HIGH, acquisition and conversions will take place continually, cycling through all four input channels, as long as (See Datasheet)", 26 PWRD (in) "Power Down Input. If HIGH, conversions are inhibited and power consumption is significantly reduced. Results from the previous conversion are maintained in the output register. In the continuous conversion mode, the (See Datasheet)", 27 VS2 (power) "Supply Input. Nominally +5V. Connect directly to pin 28. Decouple to ground with 0.1uF ceramic and 10uF Tantalum capacitors.", 28 VS1 (power) "Supply Input. Nominally +5V. Connect directly to pin 27."

## ADS7824UB/1KE4
designator U?
4-Channel, 12-Bit Sampling CMOS ADC, -40 to 85 degC, 28-pin SOIC (DW28), Green (RoHS & no Sb/Br); Manufacturer: Texas Instruments; PartNumber: ADS7824UB/1KE4; # Input Channels: 4; Analog Voltage AV/DD(Max)(V): 5.25; Analog Voltage AV/DD(Min)(V): 4.75; Architecture: SAR; INL(Max)(+/-LSB): 0.5; Interface: Parallel CMOS, Serial SPI; Resolution(Bits): 12; Sample Rate (max)(SPS): 40k; SFDR(dB): 90; SINAD(dB): 73; SubFamily: Precision ADC (<=10MSPS); DatasheetVersion: SBAS044; PackageVersion: 4040000-6/G, 01/2011; PackageReference: DW28; PackageDescription: 28-Pin Plastic Small Outline, Body 17.90 x 7.50 mm, Pitch 1.27 mm; Supplier 1: Digi-Key; Supplier Part Number 1: THS1041CDW-ND; Supplier 2: Newark; Supplier Part Number 2: 76C6171; Supplier 3: Mouser; Supplier Part Number 3: 595-THS1041CDW; Digital Supply(Max)(V): 5.25; Digital Supply(Min)(V): 4.75; Eco-Plan: Green (RoHS & no Sb/Br); SNR(dB): 73; Mounting Technology: Surface Mount; Code_JEDEC: MS-013; ComponentLink1Description: Manufacturer URL; ComponentLink1URL: http://www.ti.com/; ComponentLink2Description: Datasheet; ComponentLink2URL: http://www.ti.com/general/docs/lit/getliterature.tsp?genericPartNumber=ADS7824&fileType=pdf; ComponentLink3Description: Package Specification; ComponentLink3URL: http://www.ti.com/lit/ml/mpds175a/mpds175a.pdf
footprint TI-DW28_N (SOIC, 28-Leads, Body 17.9x7.5mm, Pitch 1.27mm, IPC Medium Density)
footprint TI-DW28_L (SOIC, 28-Leads, Body 17.9x7.5mm, Pitch 1.27mm, IPC High Density)
footprint TI-DW28_M (SOIC, 28-Leads, Body 17.9x7.5mm, Pitch 1.27mm, IPC Low Density)
pins: 1 AGND1 (power) "Analog Ground. Used internally as ground reference point.", 2 AIN0 (in) "Analog Input Channel 0. Full-scale input range is +/-10V.", 3 AIN1 (in) "Analog Input Channel 1. Full-scale input range is +/-10V.", 4 AIN2 (in) "Analog Input Channel 2. Full-scale input range is +/-10V.", 5 AIN3 (in) "Analog Input Channel 3. Full-scale input range is +/-10V.", 6 CAP "Internal Reference Output Buffer. 2.2uF Tantalum to ground.", 7 REF (io) "Reference Input/Output. Outputs +2.5V nominal. If used externally, must be buffered to maintain ADS7825 accuracy. Can also be driven by external system reference. In both cases, bypass to ground with a 2.2uF Tantalum (See Datasheet)", 8 AGND2 (power) "Analog Ground.", 9 D7/TRI-STATE (hiz) "Parallel Data Bit 7 if PAR/S\E\R\ HIGH; Tri-state if PAR/S\E\R\ LOW. See Table I.", 10 D6/TRI-STATE (hiz) "Parallel Data Bit 6 if PAR/S\E\R\ HIGH; Tri-state if PAR/S\E\R\ LOW. See Table I.", 11 D5/TRI-STATE (hiz) "Parallel Data Bit 5 if PAR/S\E\R\ HIGH; Tri-state if PAR/S\E\R\ LOW. See Table I.", 12 D4/EXT/~{INT} (io) "Parallel Data Bit 4 if PAR/S\E\R\ HIGH; if PAR/S\E\R\ LOW, a LOW level input here will transmit serial data on SDATA from the previous conversion using the internal serial clock; a HIGH input here will transmit serial data (See Datasheet)", 13 D3/SYNC (hiz) "Parallel Data Bit 3 if PAR/S\E\R\ HIGH; SYNC output if PAR/S\E\R\ LOW. See Table I.", 14 DGND (power) "Digital Ground.", 15 D2/DATACLK (io) "Parallel Data Bit 2 if PAR/S\E\R\ HIGH; if PAR/S\E\R\ LOW, this will output the internal serial clock if EXT/I\N\T\ (D4) is LOW; will be an input for an external serial clock if EXT/I\N\T\ (D4) is HIGH. See Table I.", 16 D1/SDATA (hiz) "Parallel Data Bit 1 if PAR/S\E\R\ HIGH; SDATA serial data output if PAR/S\E\R\ LOW. See Table I.", 17 D0/TAG (io) "Parallel Data Bit 0 if PAR/S\E\R\ HIGH; TAG data input if PAR/S\E\R\ LOW. See Table I.", 18 A1 (io) "Channel Address. Input if CONTC LOW, output if CONTC HIGH. See Table I.", 19 A0 (io) "Channel Address. Input if CONTC LOW, output if CONTC HIGH. See Table I.", 20 PAR/~{SER} (in) "Select Parallel or Serial Output. If HIGH, parallel data will be output on D0 thru D7. If LOW, serial data will be output on SDATA. See Table I and Figure 1.", 21 BYTE (in) "Byte Select. Only used with parallel data, when PAR/S\E\R\ HIGH. Determines which byte is available on D0 thru D7. Changing BYTE with C\S\ LOW and R/C\ HIGH will cause the data bus to change accordingly. LOW selects the 8 (See Datasheet)", 22 R/~{C} (in) "Read/Convert Input. With C\S\ LOW, a falling edge on R/C\ puts the internal sample/hold into the hold state and starts a conversion. With C\S\ LOW, a rising edge on R/C\ enables the output data bits if PAR/S\E\R\ HIGH, or (See Datasheet)", 23 ~{CS} (in) "Chip Select. Internally OR'd with R/C\. With CONTC LOW and R/C\ LOW, a falling edge on C\S\ will initiate a conversion. With R/\C\ HIGH, a falling edge on C\S\ will enable the output data bits if PAR/S\E\R\ HIGH, or starts (See Datasheet)", 24 ~{BUSY} (out) "Busy Output. Falls when conversion is started; remains LOW until the conversion is completed and the data is latched into the output register. In parallel output mode, output data will be valid when B\U\S\Y\ rises, so that (See Datasheet)", 25 CONTC (in) "Continuous Conversion Input. If LOW, conversions will occur normally when initiated using C\S\ and R/C\; if HIGH, acquisition and conversions will take place continually, cycling through all four input channels, as long as (See Datasheet)", 26 PWRD (in) "Power Down Input. If HIGH, conversions are inhibited and power consumption is significantly reduced. Results from the previous conversion are maintained in the output register. In the continuous conversion mode, the (See Datasheet)", 27 VS2 (power) "Supply Input. Nominally +5V. Connect directly to pin 28. Decouple to ground with 0.1uF ceramic and 10uF Tantalum capacitors.", 28 VS1 (power) "Supply Input. Nominally +5V. Connect directly to pin 27."

## ADS7824UBE4
designator U?
4-Channel, 12-Bit Sampling CMOS ADC, -40 to 85 degC, 28-pin SOIC (DW28), Green (RoHS & no Sb/Br); Manufacturer: Texas Instruments; PartNumber: ADS7824UBE4; # Input Channels: 4; Analog Voltage AV/DD(Max)(V): 5.25; Analog Voltage AV/DD(Min)(V): 4.75; Architecture: SAR; INL(Max)(+/-LSB): 0.5; Interface: Parallel CMOS, Serial SPI; Resolution(Bits): 12; Sample Rate (max)(SPS): 40k; SFDR(dB): 90; SINAD(dB): 73; SubFamily: Precision ADC (<=10MSPS); DatasheetVersion: SBAS044; PackageVersion: 4040000-6/G, 01/2011; PackageReference: DW28; PackageDescription: 28-Pin Plastic Small Outline, Body 17.90 x 7.50 mm, Pitch 1.27 mm; Supplier 1: Digi-Key; Supplier Part Number 1: THS1041CDWG4-ND; Supplier 2: Mouser; Supplier Part Number 2: 595-THS1041CDWG4; Digital Supply(Max)(V): 5.25; Digital Supply(Min)(V): 4.75; Eco-Plan: Green (RoHS & no Sb/Br); SNR(dB): 73; Mounting Technology: Surface Mount; Code_JEDEC: MS-013; ComponentLink1Description: Manufacturer URL; ComponentLink1URL: http://www.ti.com/; ComponentLink2Description: Datasheet; ComponentLink2URL: http://www.ti.com/general/docs/lit/getliterature.tsp?genericPartNumber=ADS7824&fileType=pdf; ComponentLink3Description: Package Specification; ComponentLink3URL: http://www.ti.com/lit/ml/mpds175a/mpds175a.pdf
footprint TI-DW28_N (SOIC, 28-Leads, Body 17.9x7.5mm, Pitch 1.27mm, IPC Medium Density)
footprint TI-DW28_L (SOIC, 28-Leads, Body 17.9x7.5mm, Pitch 1.27mm, IPC High Density)
footprint TI-DW28_M (SOIC, 28-Leads, Body 17.9x7.5mm, Pitch 1.27mm, IPC Low Density)
pins: 1 AGND1 (power) "Analog Ground. Used internally as ground reference point.", 2 AIN0 (in) "Analog Input Channel 0. Full-scale input range is +/-10V.", 3 AIN1 (in) "Analog Input Channel 1. Full-scale input range is +/-10V.", 4 AIN2 (in) "Analog Input Channel 2. Full-scale input range is +/-10V.", 5 AIN3 (in) "Analog Input Channel 3. Full-scale input range is +/-10V.", 6 CAP "Internal Reference Output Buffer. 2.2uF Tantalum to ground.", 7 REF (io) "Reference Input/Output. Outputs +2.5V nominal. If used externally, must be buffered to maintain ADS7825 accuracy. Can also be driven by external system reference. In both cases, bypass to ground with a 2.2uF Tantalum (See Datasheet)", 8 AGND2 (power) "Analog Ground.", 9 D7/TRI-STATE (hiz) "Parallel Data Bit 7 if PAR/S\E\R\ HIGH; Tri-state if PAR/S\E\R\ LOW. See Table I.", 10 D6/TRI-STATE (hiz) "Parallel Data Bit 6 if PAR/S\E\R\ HIGH; Tri-state if PAR/S\E\R\ LOW. See Table I.", 11 D5/TRI-STATE (hiz) "Parallel Data Bit 5 if PAR/S\E\R\ HIGH; Tri-state if PAR/S\E\R\ LOW. See Table I.", 12 D4/EXT/~{INT} (io) "Parallel Data Bit 4 if PAR/S\E\R\ HIGH; if PAR/S\E\R\ LOW, a LOW level input here will transmit serial data on SDATA from the previous conversion using the internal serial clock; a HIGH input here will transmit serial data (See Datasheet)", 13 D3/SYNC (hiz) "Parallel Data Bit 3 if PAR/S\E\R\ HIGH; SYNC output if PAR/S\E\R\ LOW. See Table I.", 14 DGND (power) "Digital Ground.", 15 D2/DATACLK (io) "Parallel Data Bit 2 if PAR/S\E\R\ HIGH; if PAR/S\E\R\ LOW, this will output the internal serial clock if EXT/I\N\T\ (D4) is LOW; will be an input for an external serial clock if EXT/I\N\T\ (D4) is HIGH. See Table I.", 16 D1/SDATA (hiz) "Parallel Data Bit 1 if PAR/S\E\R\ HIGH; SDATA serial data output if PAR/S\E\R\ LOW. See Table I.", 17 D0/TAG (io) "Parallel Data Bit 0 if PAR/S\E\R\ HIGH; TAG data input if PAR/S\E\R\ LOW. See Table I.", 18 A1 (io) "Channel Address. Input if CONTC LOW, output if CONTC HIGH. See Table I.", 19 A0 (io) "Channel Address. Input if CONTC LOW, output if CONTC HIGH. See Table I.", 20 PAR/~{SER} (in) "Select Parallel or Serial Output. If HIGH, parallel data will be output on D0 thru D7. If LOW, serial data will be output on SDATA. See Table I and Figure 1.", 21 BYTE (in) "Byte Select. Only used with parallel data, when PAR/S\E\R\ HIGH. Determines which byte is available on D0 thru D7. Changing BYTE with C\S\ LOW and R/C\ HIGH will cause the data bus to change accordingly. LOW selects the 8 (See Datasheet)", 22 R/~{C} (in) "Read/Convert Input. With C\S\ LOW, a falling edge on R/C\ puts the internal sample/hold into the hold state and starts a conversion. With C\S\ LOW, a rising edge on R/C\ enables the output data bits if PAR/S\E\R\ HIGH, or (See Datasheet)", 23 ~{CS} (in) "Chip Select. Internally OR'd with R/C\. With CONTC LOW and R/C\ LOW, a falling edge on C\S\ will initiate a conversion. With R/\C\ HIGH, a falling edge on C\S\ will enable the output data bits if PAR/S\E\R\ HIGH, or starts (See Datasheet)", 24 ~{BUSY} (out) "Busy Output. Falls when conversion is started; remains LOW until the conversion is completed and the data is latched into the output register. In parallel output mode, output data will be valid when B\U\S\Y\ rises, so that (See Datasheet)", 25 CONTC (in) "Continuous Conversion Input. If LOW, conversions will occur normally when initiated using C\S\ and R/C\; if HIGH, acquisition and conversions will take place continually, cycling through all four input channels, as long as (See Datasheet)", 26 PWRD (in) "Power Down Input. If HIGH, conversions are inhibited and power consumption is significantly reduced. Results from the previous conversion are maintained in the output register. In the continuous conversion mode, the (See Datasheet)", 27 VS2 (power) "Supply Input. Nominally +5V. Connect directly to pin 28. Decouple to ground with 0.1uF ceramic and 10uF Tantalum capacitors.", 28 VS1 (power) "Supply Input. Nominally +5V. Connect directly to pin 27."